# Altium footprint library G-BOX_V104a.PcbLib: 24 footprints (part 2 of 2)
Each footprint in its own frame and in the unit in brackets; x right, y up, seen from the top. Pads: shape width x height; smd on the part's side, far side on the other; paste and mask are expansions set on the pad; w line width, h text height; cw(c..) or ccw(c..) is an arc to the next point about the centre after c.
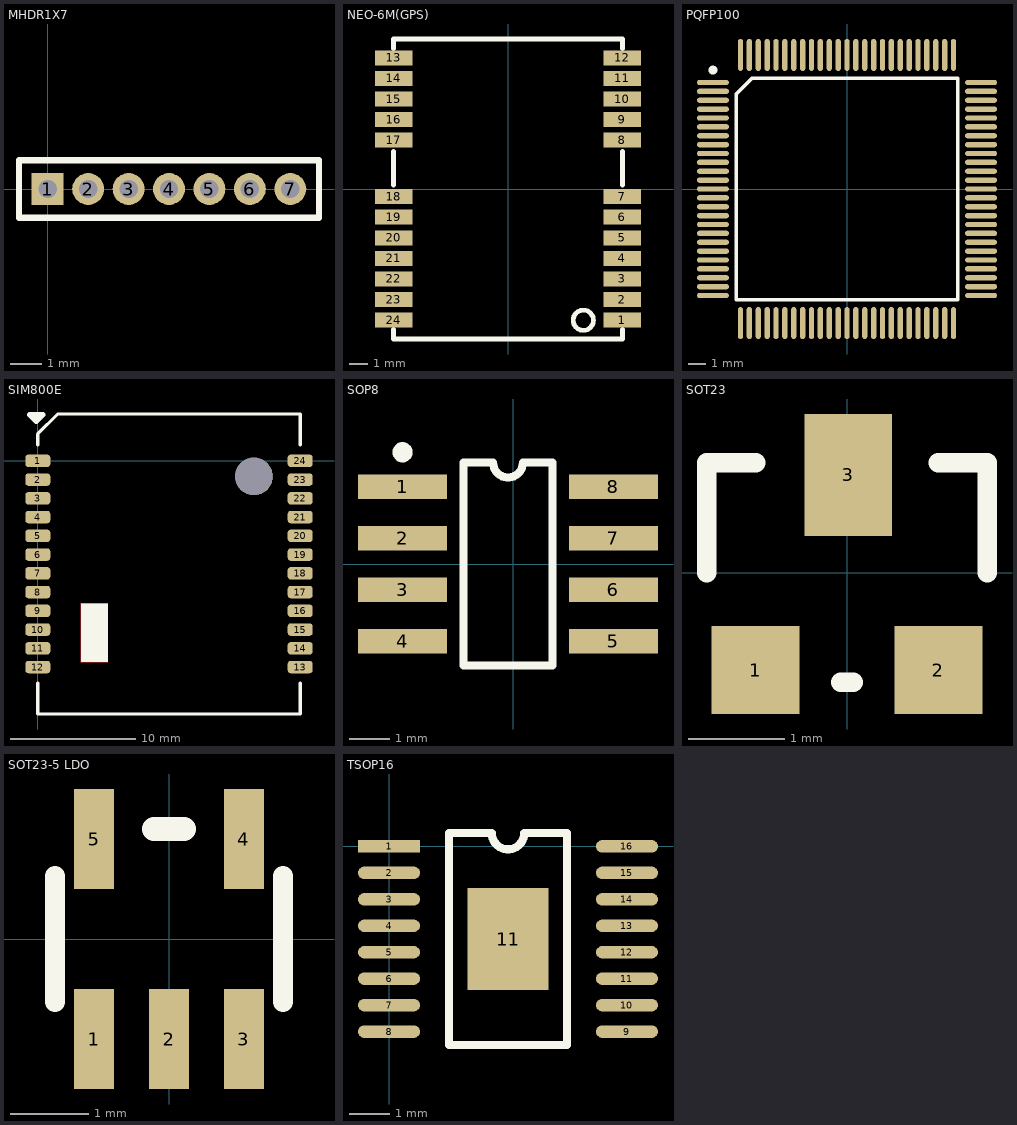
[diagram p1: the footprints below, top view; thin cyan lines are the x and y axes]

## MHDR1X7 [mm] "Connector; Header; 7 Position"
pads (7):
  rect 1x1 hole 0.58: 1(0,0)
  round 1 hole 0.58: 2(1.27,0) 3(2.54,0) 4(3.81,0) 5(5.08,0) 6(6.35,0) 7(7.62,0)
Top Overlay:
  lines w0.2: -0.9,-0.9 8.52,-0.9 8.52,0.9 -0.9,0.9 -0.9,-0.9

## NEO-6M(GPS) [mm]
height 22
pads (24):
  rect 2x0.8 smd: 1(6.1,-7) 2(6.1,-5.9) 3(6.1,-4.8) 4(6.1,-3.7) 5(6.1,-2.6) 6(6.1,-1.5) 7(6.1,-0.4) 8(6.1,2.6) 9(6.1,3.7) 10(6.1,4.8) 11(6.1,5.9) 12(6.1,7) 13(-6.1,7) 14(-6.1,5.9) 15(-6.1,4.8) 16(-6.1,3.7) 17(-6.1,2.6) 18(-6.1,-0.4) 19(-6.1,-1.5) 20(-6.1,-2.6) 21(-6.1,-3.7) 22(-6.1,-4.8) 23(-6.1,-5.9) 24(-6.1,-7)
Top Overlay:
  circle w0.254: c4.017,-7 r0.54
  lines w0.254: -6.1,-7.5 -6.1,-8 6.1,-8 6.1,-7.5 ; -6.1,0.2 -6.1,2 ; -6.1,7.5 -6.1,8 6.1,8 6.1,7.5 ; 6.1,0.2 6.1,2

## PQFP100 [mm]
pads (100):
  oval 1.8x0.3 smd: 1(-7.55,6) 2(-7.55,5.5) 3(-7.55,5) 4(-7.55,4.5) 5(-7.55,4) 6(-7.55,3.5) 7(-7.55,3) 8(-7.55,2.5) 9(-7.55,2) 10(-7.55,1.5) 11(-7.55,1) 12(-7.55,0.5) 13(-7.55,0) 14(-7.55,-0.5) 15(-7.55,-1) 16(-7.55,-1.5) 17(-7.55,-2) 18(-7.55,-2.5) 19(-7.55,-3) 20(-7.55,-3.5) 21(-7.55,-4) 22(-7.55,-4.5) 23(-7.55,-5) 24(-7.55,-5.5) 25(-7.55,-6) 51(7.55,-6) 52(7.55,-5.5) 53(7.55,-5) 54(7.55,-4.5) 55(7.55,-4) 56(7.55,-3.5) 57(7.55,-3) 58(7.55,-2.5) 59(7.55,-2) 60(7.55,-1.5) 61(7.55,-1) 62(7.55,-0.5) 63(7.55,0) 64(7.55,0.5) 65(7.55,1) 66(7.55,1.5) 67(7.55,2) 68(7.55,2.5) 69(7.55,3) 70(7.55,3.5) 71(7.55,4) 72(7.55,4.5) 73(7.55,5) 74(7.55,5.5) 75(7.55,6)
  oval 0.3x1.8 smd: 26(-6,-7.55) 27(-5.5,-7.55) 28(-5,-7.55) 29(-4.5,-7.55) 30(-4,-7.55) 31(-3.5,-7.55) 32(-3,-7.55) 33(-2.5,-7.55) 34(-2,-7.55) 35(-1.5,-7.55) 36(-1,-7.55) 37(-0.5,-7.55) 38(0,-7.55) 39(0.5,-7.55) 40(1,-7.55) 41(1.5,-7.55) 42(2,-7.55) 43(2.5,-7.55) 44(3,-7.55) 45(3.5,-7.55) 46(4,-7.55) 47(4.5,-7.55) 48(5,-7.55) 49(5.5,-7.55) 50(6,-7.55) 76(6,7.55) 77(5.5,7.55) 78(5,7.55) 79(4.5,7.55) 80(4,7.55) 81(3.5,7.55) 82(3,7.55) 83(2.5,7.55) 84(2,7.55) 85(1.5,7.55) 86(1,7.55) 87(0.5,7.55) 88(0,7.55) 89(-0.5,7.55) 90(-1,7.55) 91(-1.5,7.55) 92(-2,7.55) 93(-2.5,7.55) 94(-3,7.55) 95(-3.5,7.55) 96(-4,7.55) 97(-4.5,7.55) 98(-5,7.55) 99(-5.5,7.55) 100(-6,7.55)
Top Overlay:
  circle w0.25: c-7.55,6.7 r0.125
  lines w0.2: -6.25,-6.25 -6.25,5.334 -5.334,6.25 6.25,6.25 6.25,-6.25 -6.25,-6.25
3D body "LQFP100_Grid_0_5.step": height 1.6, standoff 0, extent -8,-8 8,8

## SIM800E [mm]
pads (25):
  rrect50% 2x1 smd: 1(0,0) 2(0,-1.5) 3(0,-3) 4(0,-4.5) 5(0,-6) 6(0,-7.5) 7(0,-9) 8(0,-10.5) 9(0,-12) 10(0,-13.5) 11(0,-15) 12(0,-16.5) 13(21,-16.5) 14(21,-15) 15(21,-13.5) 16(21,-12) 17(21,-10.5) 18(21,-9) 19(21,-7.5) 20(21,-6) 21(21,-4.5) 22(21,-3) 23(21,-1.5) 24(21,0)
  round 3 hole 3: ""(17.3,-1.25)
Top Layer:
  pour cut-out: 3.454,-11.405 5.613,-11.405 5.613,-16.104 3.454,-16.104
Top Overlay:
  rectangle: 3.454,-16.104 5.613,-11.405
  lines w0.254: 0,-17.78 0,-20.26 21,-20.26 21,-17.78 ; 0,1.27 0,2.159 1.591,3.75 21,3.75 21,1.27
  lines w0.45: -0.635,3.683 0.381,3.683 -0.127,3.175 -0.635,3.683

## SOP8 [mm]
pads (8):
  rect 2.2x0.6 smd: 1(-2.727,1.905) 2(-2.727,0.635) 3(-2.727,-0.635) 4(-2.727,-1.905) 5(2.473,-1.905) 6(2.473,-0.635) 7(2.473,0.635) 8(2.473,1.905)
Top Overlay:
  circle w0.25: c-2.727,2.755 r0.125
  lines w0.2: -1.227,-2.5 -1.227,2.5 -0.494,2.5 ccw(c-0.127,2.5) 0.24,2.5 0.973,2.5 0.973,-2.5 -1.227,-2.5
3D body "SO-8.STEP": height 1.7, standoff 0, extent -3.001,-2.45 2.999,2.45

## SOT23 [mil]
height 104.33
pads (3):
  rect 36x36 smd: 1(-37.5,-40) 2(37.5,-40)
  rect 36x50 smd: 3(0.5,40)
Top Overlay:
  lines w8: -57.5,0 -57.5,45 -37.5,45 ; -2.5,-45 2.5,-45 ; 37.5,45 57.5,45 57.5,0
3D body "SW3DPS-SOT-23-DEFAULT1.step": height 41.65, standoff -1.65, extent -59.05,-49.21 59.06,49.22

## SOT23-5 LDO [mil]
height 866.14
pads (5):
  rect 20x50 smd: 1(-37.4,-50) 2(0,-50) 3(37.4,-50) 4(37.4,50) 5(-37.4,50)
Top Overlay:
  lines w10: -57.09,-31.5 -57.09,31.5 ; 57.09,-31.5 57.09,31.5
  lines w12: -7.4,55 7.6,55
3D body "User Library-SOT23-5-2.STEP": height 57.09, standoff 0, extent -57.08,-55.11 57.09,55.12

## TSOP16 [mil]
pads (17):
  rect 60x12 smd: 1(0,0)
  oval 60x12 smd: 2(0,-25.59) 3(0,-51.18) 4(0,-76.77) 5(0,-102.36) 6(0,-127.95) 7(0,-153.54) 8(0,-179.13) 9(230,-179.13) 10(230,-153.54) 11(230,-127.95) 12(230,-102.36) 13(230,-76.77) 14(230,-51.18) 15(230,-25.59) 16(230,0)
  rect 78.74x98.43 smd: 11(115,-89.57)
Top Overlay:
  lines w8: 58,-192 172,-192 172,13 130.75,12.79 cw(c115,12.79) 99.25,12.8 58,13 58,-192
3D body "SW3dPS-TSSOP-16.STEP": height 39.37, standoff 0, extent -10.99,-188.43 240.98,8.42